# Altium schematic symbol library Logic_LevelTranslator.SchLib: 38 symbols
Pins are listed as number, name and electrical type; pins without a type are passive.

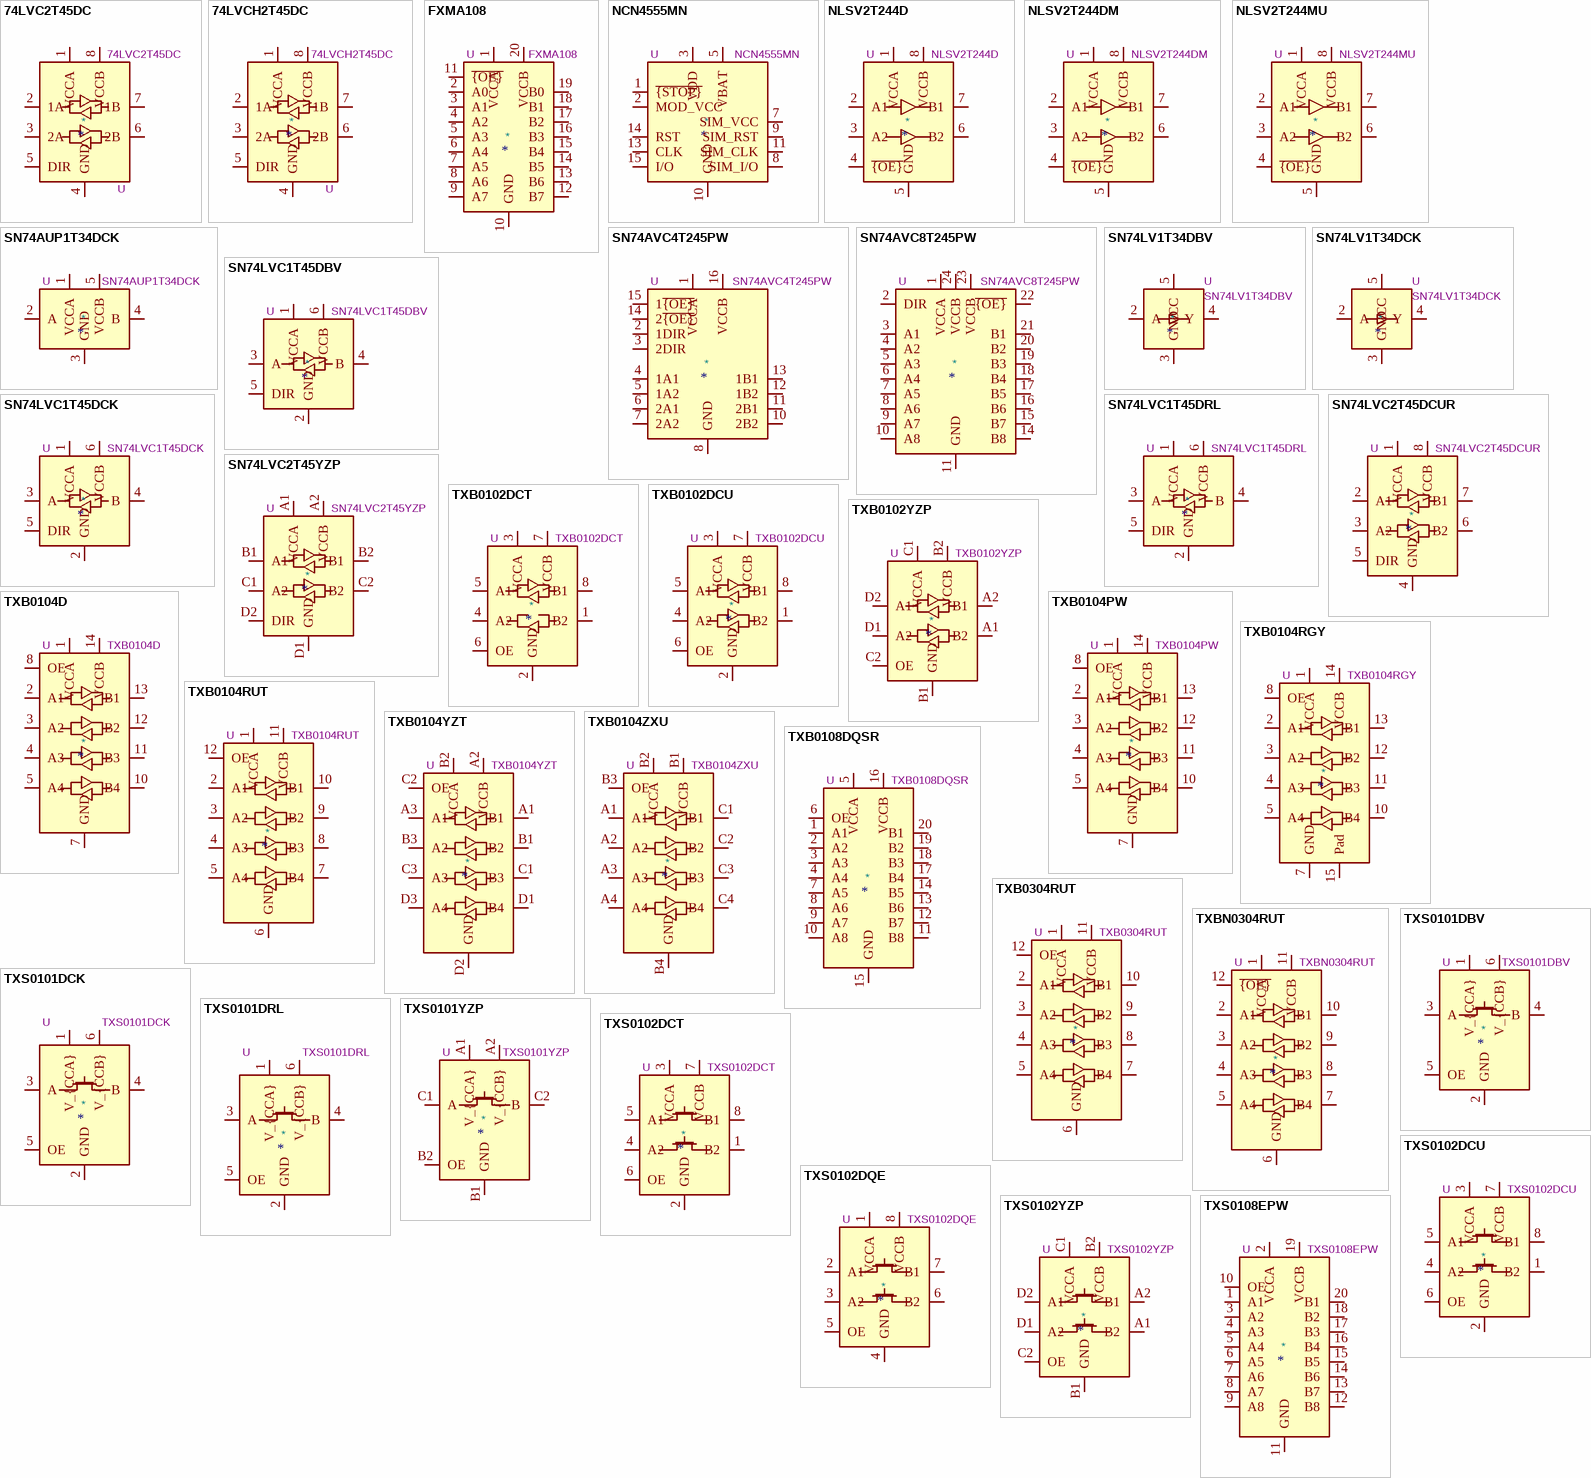
[diagram p0: symbols 74LVC2T45DC to TXS0108EPW]

## 74LVC2T45DC
designator *  value 74LVC2T45DC  Reference: U
ki_keywords: Level-Shifter CMOS-TTL-Translation; ki_description: Dual supply translating transceiver, 3-state, 2-bit, VSSOP-8; ki_fp_filters: VSSOP*2.3x2mm*P0.5mm*; Footprint: Package_SO:VSSOP-8_2.3x2mm_P0.5mm; Datasheet: https://assets.nexperia.com/documents/data-sheet/74LVC_LVCH2T45.pdf
pins: 1 VCCA, 2 1A, 3 2A, 4 GND, 5 DIR, 6 2B, 7 1B, 8 VCCB

## 74LVCH2T45DC
designator *  value 74LVCH2T45DC  Reference: U
ki_keywords: Level-Shifter CMOS-TTL-Translation; ki_description: Dual supply translating transceiver with bus-hold for unused/floating inputs, 3-state, 2-bit, VSSOP-8; ki_fp_filters: VSSOP*2.3x2mm*P0.5mm*; Footprint: Package_SO:VSSOP-8_2.3x2mm_P0.5mm; Datasheet: https://assets.nexperia.com/documents/data-sheet/74LVC_LVCH2T45.pdf
pins: 1 VCCA, 2 1A, 3 2A, 4 GND, 5 DIR, 6 2B, 7 1B, 8 VCCB

## FXMA108
designator *  value FXMA108  Reference: U
ki_keywords: Level shifter translator bidirectional; ki_description: Dual-Supply, 8-Bit Signal Translator with Configurable Voltage Supplies and Signals Levels, 3-State Outputs and Auto Direction Sensing, WQFN-20; ki_fp_filters: WQFN*1EP*2.5x4.5mm*P0.5mm*; Footprint: Package_DFN_QFN:WQFN-20-1EP_2.5x4.5mm_P0.5mm_EP1x2.9mm; Datasheet: http://www.onsemi.com/pub/Collateral/FXMA108-D.pdf
pins: 1 VCCA, 2 A0, 3 A1, 4 A2, 5 A3, 6 A4, 7 A5, 8 A6, 9 A7, 10 GND, 11 ~{{OE}}, 12 B7, 13 B6, 14 B5, 15 B4, 16 B3, 17 B2, 18 B1, 19 B0, 20 VCCB, 21 NC hidden

## NCN4555MN
designator *  value NCN4555MN  Reference: U
ki_keywords: SIM Card Level Shifter; ki_description: SIM Card Power Supply and Level Shifter, QFN-16; ki_fp_filters: QFN*1EP*3x3mm*P0.5mm*; Footprint: Package_DFN_QFN:QFN-16-1EP_3x3mm_P0.5mm_EP1.75x1.75mm; Datasheet: https://www.onsemi.com/pub/Collateral/NCN4555-D.PDF
pins: 1 ~{{STOP}}, 2 MOD_VCC, 3 VDD, 4 NC hidden, 5 VBAT, 6 NC hidden, 7 SIM_VCC, 8 SIM_I/O, 9 SIM_RST, 10 GND, 11 SIM_CLK, 12 NC hidden, 13 CLK, 14 RST, 15 I/O, 16 NC hidden, 17 GND hidden

## NLSV2T244D
designator *  value NLSV2T244D  Reference: U
ki_keywords: Level-Shifter CMOS-TTL-Translation; ki_description: Dual-Bit Dual-Supply Non-Inverting Level Translator, Output Enable, SOIC-8; ki_fp_filters: SOIC*3.9x4.9mm*P1.27mm*; Footprint: Package_SO:SOIC-8_3.9x4.9mm_P1.27mm; Datasheet: http://www.onsemi.com/pub/Collateral/NLSV2T244-D.PDF
pins: 1 VCCA, 2 A1, 3 A2, 4 ~{{OE}}, 5 GND, 6 B2, 7 B1, 8 VCCB

## NLSV2T244DM
designator *  value NLSV2T244DM  Reference: U
ki_keywords: Level-Shifter CMOS-TTL-Translation; ki_description: Dual-Bit Dual-Supply Non-Inverting Level Translator, Output Enable, MSOP-8; ki_fp_filters: MSOP*3x3mm*P0.65mm*; Footprint: Package_SO:MSOP-8_3x3mm_P0.65mm; Datasheet: http://www.onsemi.com/pub/Collateral/NLSV2T244-D.PDF
pins: 1 VCCA, 2 A1, 3 A2, 4 ~{{OE}}, 5 GND, 6 B2, 7 B1, 8 VCCB

## NLSV2T244MU
designator *  value NLSV2T244MU  Reference: U
ki_keywords: Level-Shifter CMOS-TTL-Translation; ki_description: Dual-Bit Dual-Supply Non-Inverting Level Translator, Output Enable, UDFN-8; ki_fp_filters: OnSemi*UDFN*1.2x1.8mm*P0.4mm*; Footprint: Package_DFN_QFN:OnSemi_UDFN-8_1.2x1.8mm_P0.4mm; Datasheet: http://www.onsemi.com/pub/Collateral/NLSV2T244-D.PDF
pins: 1 VCCA, 2 A1, 3 A2, 4 ~{{OE}}, 5 GND, 6 B2, 7 B1, 8 VCCB

## SN74AUP1T34DCK
designator *  value SN74AUP1T34DCK  Reference: U
ki_keywords: Noninverting; ki_description: 1-Bit Unidirectional Voltage-Level Translator, SC-70; ki_fp_filters: SOT*353*; Footprint: Package_TO_SOT_SMD:SOT-353_SC-70-5; Datasheet: http://www.ti.com/lit/ds/symlink/sn74aup1t34.pdf
pins: 1 VCCA, 2 A, 3 GND, 4 B, 5 VCCB

## SN74AVC4T245PW
designator *  value SN74AVC4T245PW  Reference: U
ki_keywords: Noninverting Bidirectional; ki_description: 4-Bit Dual-Supply Bus Transceiver With Configurable Voltage Translation and 3-State Outputs, TSSOP-16; ki_fp_filters: TSSOP*4.4x5mm*P0.65mm*; Footprint: Package_SO:TSSOP-16_4.4x5mm_P0.65mm; Datasheet: https://www.ti.com/lit/ds/symlink/sn74avc4t245.pdf
pins: 1 VCCA, 2 1DIR, 3 2DIR, 4 1A1, 5 1A2, 6 2A1, 7 2A2, 8 GND, 9 GND hidden, 10 2B2, 11 2B1, 12 1B2, 13 1B1, 14 2~{{OE}}, 15 1~{{OE}}, 16 VCCB

## SN74AVC8T245PW
designator *  value SN74AVC8T245PW  Reference: U
ki_keywords: Noninverting Bidirectional; ki_description: 8-Bit Dual-Supply Bus Transceiver With Configurable Voltage Translation and 3-State Outputs, TSSOP-24; ki_fp_filters: TSSOP*4.4x7.8mm*P0.65mm*; Footprint: Package_SO:TSSOP-24_4.4x7.8mm_P0.65mm; Datasheet: https://www.ti.com/lit/ds/symlink/sn74avc8t245.pdf
pins: 1 VCCA, 2 DIR, 3 A1, 4 A2, 5 A3, 6 A4, 7 A5, 8 A6, 9 A7, 10 A8, 11 GND, 12 GND hidden, 13 GND hidden, 14 B8, 15 B7, 16 B6, 17 B5, 18 B4, 19 B3, 20 B2, 21 B1, 22 ~{{OE}}, 23 VCCB, 24 VCCB

## SN74LV1T34DBV
designator *  value SN74LV1T34DBV  Reference: U
ki_keywords: single buffer level shift; ki_description: Single Power Supply, Single Buffer GATE, CMOS Logic, Level Shifter, SOT-23-5; ki_fp_filters: SOT?23*; Footprint: Package_TO_SOT_SMD:SOT-23-5; Datasheet: https://www.ti.com/lit/ds/symlink/sn74lv1t34.pdf
pins: 1 NC hidden, 2 A, 3 GND, 4 Y, 5 VCC

## SN74LV1T34DCK
designator *  value SN74LV1T34DCK  Reference: U
ki_keywords: single buffer level shift; ki_description: Single Power Supply, Single Buffer GATE, CMOS Logic, Level Shifter, SOT-353; ki_fp_filters: SOT?353*; Footprint: Package_TO_SOT_SMD:SOT-353_SC-70-5; Datasheet: https://www.ti.com/lit/ds/symlink/sn74lv1t34.pdf
pins: 1 NC hidden, 2 A, 3 GND, 4 Y, 5 VCC

## SN74LVC1T45DBV
designator *  value SN74LVC1T45DBV  Reference: U
ki_keywords: Level-Shifter CMOS-TTL-Translation; ki_description: Single-Bit Dual-Supply Bus Transceiver With Configurable Voltage Translation and 3-State Outputs, SOT-23-6; ki_fp_filters: SOT?23*; Footprint: Package_TO_SOT_SMD:SOT-23-6; Datasheet: http://www.ti.com/lit/ds/symlink/sn74lvc1t45.pdf
pins: 1 VCCA, 2 GND, 3 A, 4 B, 5 DIR, 6 VCCB

## SN74LVC1T45DCK
designator *  value SN74LVC1T45DCK  Reference: U
ki_keywords: Level-Shifter CMOS-TTL-Translation; ki_description: Single-Bit Dual-Supply Bus Transceiver With Configurable Voltage Translation and 3-State Outputs, SOT-363; ki_fp_filters: *SC?70*; Footprint: Package_TO_SOT_SMD:SOT-363_SC-70-6; Datasheet: http://www.ti.com/lit/ds/symlink/sn74lvc1t45.pdf
pins: 1 VCCA, 2 GND, 3 A, 4 B, 5 DIR, 6 VCCB

## SN74LVC1T45DRL
designator *  value SN74LVC1T45DRL  Reference: U
ki_keywords: Level-Shifter CMOS-TTL-Translation; ki_description: Single-Bit Dual-Supply Bus Transceiver With Configurable Voltage Translation and 3-State Outputs, SOT-563; ki_fp_filters: *SOT?563*; Footprint: Package_TO_SOT_SMD:SOT-563; Datasheet: http://www.ti.com/lit/ds/symlink/sn74lvc1t45.pdf
pins: 1 VCCA, 2 GND, 3 A, 4 B, 5 DIR, 6 VCCB

## SN74LVC2T45DCUR
designator *  value SN74LVC2T45DCUR  Reference: U
ki_keywords: Level-Shifter CMOS-TTL-Translation; ki_description: Dual-Bit Dual-Supply Bus Transceiver With Configurable Voltage Translation and 3-State Outputs, VSSOP-8; ki_fp_filters: VSSOP*2.4x2.1mm*P0.5mm*; Footprint: Package_SO:VSSOP-8_2.4x2.1mm_P0.5mm; Datasheet: http://www.ti.com/lit/ds/symlink/sn74lvc2t45.pdf
pins: 1 VCCA, 2 A1, 3 A2, 4 GND, 5 DIR, 6 B2, 7 B1, 8 VCCB

## SN74LVC2T45YZP
designator *  value SN74LVC2T45YZP  Reference: U
ki_keywords: Level-Shifter CMOS-TTL-Translation; ki_description: Dual-Bit Dual-Supply Bus Transceiver With Configurable Voltage Translation and 3-State Outputs, DSBGA-8; ki_fp_filters: Texas*DSBGA*0.9x1.9mm*Layout2x4*P0.5mm*; Footprint: Package_BGA:Texas_DSBGA-8_0.9x1.9mm_Layout2x4_P0.5mm; Datasheet: http://www.ti.com/lit/ds/symlink/sn74lvc2t45.pdf
pins: A1 VCCA, A2 VCCB, B1 A1, B2 B1, C1 A2, C2 B2, D1 GND, D2 DIR

## TXB0102DCT
designator *  value TXB0102DCT  Reference: U
ki_keywords: Level-Shifter CMOS-TTL-Translation; ki_description: 2-Bit Bidirectional Voltage-Level Translator in TSSOP Package With Auto Direction Sensing and ±15-kV ESD Protection; ki_fp_filters: TSSOP*P0.65mm*; Footprint: Package_SO:TSSOP-8_3x3mm_P0.65mm; Datasheet: http://www.ti.com/lit/ds/symlink/txb0102.pdf
pins: 1 B2, 2 GND, 3 VCCA, 4 A2, 5 A1, 6 OE, 7 VCCB, 8 B1

## TXB0102DCU
designator *  value TXB0102DCU  Reference: U
ki_keywords: Level-Shifter CMOS-TTL-Translation; ki_description: 2-Bit Bidirectional Voltage-Level Translator in VSSOP Package With Auto Direction Sensing and ±15-kV ESD Protection; ki_fp_filters: VSSOP*P0.5mm*; Footprint: Package_SO:VSSOP-8_2.4x2.1mm_P0.5mm; Datasheet: http://www.ti.com/lit/ds/symlink/txb0102.pdf
pins: 1 B2, 2 GND, 3 VCCA, 4 A2, 5 A1, 6 OE, 7 VCCB, 8 B1

## TXB0102YZP
designator *  value TXB0102YZP  Reference: U
ki_keywords: Level-Shifter CMOS-TTL-Translation; ki_description: 2-Bit Bidirectional Voltage-Level Translator in DSBGA Package  With Auto Direction Sensing and ±15-kV ESD Protection; ki_fp_filters: Texas*DSBGA*0.9x1.9mm*Layout2x4*P0.5mm*; Footprint: Package_BGA:Texas_DSBGA-8_0.9x1.9mm_Layout2x4_P0.5mm; Datasheet: http://www.ti.com/lit/ds/symlink/txb0102.pdf
pins: A1 B2, A2 B1, B1 GND, B2 VCCB, C1 VCCA, C2 OE, D1 A2, D2 A1

## TXB0104D
designator *  value TXB0104D  Reference: U
ki_keywords: Level-Shifter CMOS-TTL-Translation; ki_description: 4-Bit Bidirectional Voltage-Level Translator, Auto Direction Sensing and ±15-kV ESD Protection, 1.2 - 3.6V APort, 1.65 - 5.5V BPort, SOIC-14; ki_fp_filters: SOIC*14*7mm*P1.27mm*; Footprint: Package_SO:SOIC-14_3.9x8.7mm_P1.27mm; Datasheet: http://www.ti.com/lit/ds/symlink/txb0104.pdf
pins: 1 VCCA, 2 A1, 3 A2, 4 A3, 5 A4, 6 NC hidden, 7 GND, 8 OE, 9 NC hidden, 10 B4, 11 B3, 12 B2, 13 B1, 14 VCCB

## TXB0104PW
designator *  value TXB0104PW  Reference: U
ki_keywords: Level-Shifter CMOS-TTL-Translation; ki_description: 4-Bit Bidirectional Voltage-Level Translator, Auto Direction Sensing and ±15-kV ESD Protection, 1.2 - 3.6V APort, 1.65 - 5.5V BPort, TSSOP-14; ki_fp_filters: TSSOP*14*5mm*P0.65mm*; Footprint: Package_SO:TSSOP-14_4.4x5mm_P0.65mm; Datasheet: http://www.ti.com/lit/ds/symlink/txb0104.pdf
pins: 1 VCCA, 2 A1, 3 A2, 4 A3, 5 A4, 6 NC hidden, 7 GND, 8 OE, 9 NC hidden, 10 B4, 11 B3, 12 B2, 13 B1, 14 VCCB

## TXB0104RGY
designator *  value TXB0104RGY  Reference: U
ki_keywords: Level-Shifter CMOS-TTL-Translation; ki_description: 4-Bit Bidirectional Voltage-Level Translator, Auto Direction Sensing and ±15-kV ESD Protection, 1.2 - 3.6V APort, 1.65 - 5.5V BPort, Texas_PVGFN-14; ki_fp_filters: Texas*S*PVQFN*N14*; Footprint: Package_DFN_QFN:Texas_S-PVQFN-N14; Datasheet: http://www.ti.com/lit/ds/symlink/txb0104.pdf
pins: 1 VCCA, 2 A1, 3 A2, 4 A3, 5 A4, 6 NC hidden, 7 GND, 8 OE, 9 NC hidden, 10 B4, 11 B3, 12 B2, 13 B1, 14 VCCB, 15 Pad

## TXB0104RUT
designator *  value TXB0104RUT  Reference: U
ki_keywords: Level-Shifter CMOS-TTL-Translation; ki_description: 4-Bit Bidirectional Voltage-Level Translator, Auto Direction Sensing and ±15-kV ESD Protection, 1.2 - 3.6V APort, 1.65 - 5.5V BPort, Texas_PUQFN-12; ki_fp_filters: Texas*R*PUQFN*N12*; Footprint: Package_DFN_QFN:Texas_R-PUQFN-N12; Datasheet: http://www.ti.com/lit/ds/symlink/txb0104.pdf
pins: 1 VCCA, 2 A1, 3 A2, 4 A3, 5 A4, 6 GND, 7 B4, 8 B3, 9 B2, 10 B1, 11 VCCB, 12 OE

## TXB0104YZT
designator *  value TXB0104YZT  Reference: U
ki_keywords: Level-Shifter CMOS-TTL-Translation; ki_description: 4-Bit Bidirectional Voltage-Level Translator, Auto Direction Sensing and ±15-kV ESD Protection, 1.2 - 3.6V APort, 1.65 - 5.5V BPort, DSBGA-12; ki_fp_filters: Texas*DSBGA*1.36x1.86mm*Layout3x4*P0.5mm*; Footprint: Package_BGA:Texas_DSBGA-12_1.36x1.86mm_Layout3x4_P0.5mm; Datasheet: http://www.ti.com/lit/ds/symlink/txb0104.pdf
pins: A1 B1, A2 VCCB, A3 A1, B1 B2, B2 VCCA, B3 A2, C1 B3, C2 OE, C3 A3, D1 B4, D2 GND, D3 A4

## TXB0104ZXU
designator *  value TXB0104ZXU  Reference: U
ki_keywords: Level-Shifter CMOS-TTL-Translation; ki_description: 4-Bit Bidirectional Voltage-Level Translator, Auto Direction Sensing and ±15-kV ESD Protection, 1.2 - 3.6V APort, 1.65 - 5.5V BPort, Texas_Junior-12; ki_fp_filters: Texas*Junior*BGA*2.0x2.5mm*Layout4x3*P0.5mm*; Footprint: Package_BGA:Texas_MicroStar_Junior_BGA-12_2.0x2.5mm_Layout4x3_P0.5mm; Datasheet: http://www.ti.com/lit/ds/symlink/txb0104.pdf
pins: A1, A2, A3, A4, B1 VCCB, B2 VCCA, B3 OE, B4 GND, C1 B1, C2 B2, C3 B3, C4 B4

## TXB0108DQSR
designator *  value TXB0108DQSR  Reference: U
ki_keywords: bidirectional voltage level translator; ki_description: 8-bit bidirectional voltage level translator with auto-direction sensing USON package; ki_fp_filters: USON*2x4mm*P0.4mm*; Footprint: Package_SON:USON-20_2x4mm_P0.4mm; Datasheet: http://www.ti.com/lit/ds/symlink/txb0108.pdf
pins: 1 A1, 2 A2, 3 A3, 4 A4, 5 VCCA, 6 OE, 7 A5, 8 A6, 9 A7, 10 A8, 11 B8, 12 B7, 13 B6, 14 B5, 15 GND, 16 VCCB, 17 B4, 18 B3, 19 B2, 20 B1

## TXB0304RUT
designator *  value TXB0304RUT  Reference: U
ki_keywords: Level-Shifter CMOS-TTL-Translation; ki_description: 4-Bit Bidirectional Voltage-Level Translator, Auto Direction Sensing, 0.9 - 3.6V APort, 0.9 - 3.6V BPort, Active High Output Enable, Texas_PUQFN-12; ki_fp_filters: Texas*R*PUQFN*N12*; Footprint: Package_DFN_QFN:Texas_R-PUQFN-N12; Datasheet: http://www.ti.com/lit/ds/symlink/txb0304.pdf
pins: 1 VCCA, 2 A1, 3 A2, 4 A3, 5 A4, 6 GND, 7 B4, 8 B3, 9 B2, 10 B1, 11 VCCB, 12 OE

## TXBN0304RUT
designator *  value TXBN0304RUT  Reference: U
ki_keywords: Level-Shifter CMOS-TTL-Translation; ki_description: 4-Bit Bidirectional Voltage-Level Translator, Auto Direction Sensing, 0.9 - 3.6V APort, 0.9 - 3.6V BPort, Active Low Output Enable, Texas_PUQFN-12; ki_fp_filters: Texas*R*PUQFN*N12*; Footprint: Package_DFN_QFN:Texas_R-PUQFN-N12; Datasheet: http://www.ti.com/lit/ds/symlink/txb0304.pdf
pins: 1 VCCA, 2 A1, 3 A2, 4 A3, 5 A4, 6 GND, 7 B4, 8 B3, 9 B2, 10 B1, 11 VCCB, 12 ~{{OE}}

## TXS0101DBV
designator *  value TXS0101DBV  Reference: U
ki_keywords: Level-Shifter CMOS-TTL-Translation; ki_description: 1-Bit Bidirectional Voltage-Level Shifter for Open-Drain and Push-Pull Application, SOT-23; ki_fp_filters: SOT?23*; Footprint: Package_TO_SOT_SMD:SOT-23-6; Datasheet: https://www.ti.com/lit/ds/symlink/txs0101.pdf
pins: 1 V_{CCA}, 2 GND, 3 A, 4 B, 5 OE, 6 V_{CCB}

## TXS0101DCK
designator *  value TXS0101DCK  Reference: U
ki_keywords: Level-Shifter CMOS-TTL-Translation; ki_description: 1-Bit Bidirectional Voltage-Level Shifter for Open-Drain and Push-Pull Application, SOT-363; ki_fp_filters: SOT?363*; Footprint: Package_TO_SOT_SMD:SOT-363_SC-70-6; Datasheet: https://www.ti.com/lit/ds/symlink/txs0101.pdf
pins: 1 V_{CCA}, 2 GND, 3 A, 4 B, 5 OE, 6 V_{CCB}

## TXS0101DRL
designator *  value TXS0101DRL  Reference: U
ki_keywords: Level-Shifter CMOS-TTL-Translation; ki_description: 1-Bit Bidirectional Voltage-Level Shifter for Open-Drain and Push-Pull Application, SOT-563; ki_fp_filters: SOT?563*; Footprint: Package_TO_SOT_SMD:SOT-563; Datasheet: https://www.ti.com/lit/ds/symlink/txs0101.pdf
pins: 1 V_{CCA}, 2 GND, 3 A, 4 B, 5 OE, 6 V_{CCB}

## TXS0101YZP
designator *  value TXS0101YZP  Reference: U
ki_keywords: Level-Shifter CMOS-TTL-Translation; ki_description: 1-Bit Bidirectional Voltage-Level Shifter for Open-Drain and Push-Pull Application, Texas DSBGA-6; ki_fp_filters: Texas*DSBGA*0.9x1.4mm*Layout2x3*P0.5mm*; Footprint: Package_BGA:Texas_DSBGA-6_0.9x1.4mm_Layout2x3_P0.5mm; Datasheet: https://www.ti.com/lit/ds/symlink/txs0101.pdf
pins: A1 V_{CCA}, A2 V_{CCB}, B1 GND, B2 OE, C1 A, C2 B

## TXS0102DCT
designator *  value TXS0102DCT  Reference: U
ki_keywords: Level-Shifter CMOS-TTL-Translation; ki_description: 2-Bit Bidirectional Voltage-Level Shifter for Open-Drain and Push-Pull Application, SSOP-8; ki_fp_filters: SSOP*2.95x2.8mm*P0.65mm*; Footprint: Package_SO:SSOP-8_2.95x2.8mm_P0.65mm; Datasheet: http://www.ti.com/lit/gpn/txs0102
pins: 1 B2, 2 GND, 3 VCCA, 4 A2, 5 A1, 6 OE, 7 VCCB, 8 B1

## TXS0102DCU
designator *  value TXS0102DCU  Reference: U
ki_keywords: Level-Shifter CMOS-TTL-Translation; ki_description: 2-Bit Bidirectional Voltage-Level Shifter for Open-Drain and Push-Pull Application, VSSOP-8; ki_fp_filters: VSSOP*2.3x2mm*P0.5mm*; Footprint: Package_SO:VSSOP-8_2.3x2mm_P0.5mm; Datasheet: http://www.ti.com/lit/gpn/txs0102
pins: 1 B2, 2 GND, 3 VCCA, 4 A2, 5 A1, 6 OE, 7 VCCB, 8 B1

## TXS0102DQE
designator *  value TXS0102DQE  Reference: U
ki_keywords: Level-Shifter CMOS-TTL-Translation; ki_description: 2-Bit Bidirectional Voltage-Level Shifter for Open-Drain and Push-Pull Application, X2SON-8; ki_fp_filters: X2SON*1.4x1mm*P0.35mm*; Footprint: Package_SON:X2SON-8_1.4x1mm_P0.35mm; Datasheet: http://www.ti.com/lit/gpn/txs0102
pins: 1 VCCA, 2 A1, 3 A2, 4 GND, 5 OE, 6 B2, 7 B1, 8 VCCB

## TXS0102YZP
designator *  value TXS0102YZP  Reference: U
ki_keywords: Level-Shifter CMOS-TTL-Translation; ki_description: 2-Bit Bidirectional Voltage-Level Shifter for Open-Drain and Push-Pull Application, DSBGA-8; ki_fp_filters: Texas*DSBGA*0.9x1.9mm*Layout2x4*P0.5mm*; Footprint: Package_BGA:Texas_DSBGA-8_0.9x1.9mm_Layout2x4_P0.5mm; Datasheet: http://www.ti.com/lit/gpn/txs0102
pins: A1 B2, A2 B1, B1 GND, B2 VCCB, C1 VCCA, C2 OE, D1 A2, D2 A1

## TXS0108EPW
designator *  value TXS0108EPW  Reference: U
ki_keywords: 8-bit; ki_description: Bidirectional  level-shifting voltage translator, TSSOP-20; ki_fp_filters: *SSOP*4.4x6.5mm*P0.65mm*; Footprint: Package_SO:TSSOP-20_4.4x6.5mm_P0.65mm; Datasheet: www.ti.com/lit/ds/symlink/txs0108e.pdf
pins: 1 A1, 2 VCCA, 3 A2, 4 A3, 5 A4, 6 A5, 7 A6, 8 A7, 9 A8, 10 OE, 11 GND, 12 B8, 13 B7, 14 B6, 15 B5, 16 B4, 17 B3, 18 B2, 19 VCCB, 20 B1